# Altium schematic symbol library SCH - CONNECTORS - 2 PIN.SCHLIB: 1 symbol
Pins are listed as number, name and electrical type; pins without a type are passive.

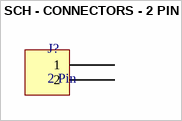
[diagram p0: symbol SCH - CONNECTORS - 2 PIN]

## SCH - CONNECTORS - 2 PIN
designator J?, comment 2 Pin
pins: 1, 2